# EAGLE library part MAX4376F (library lpatiny)
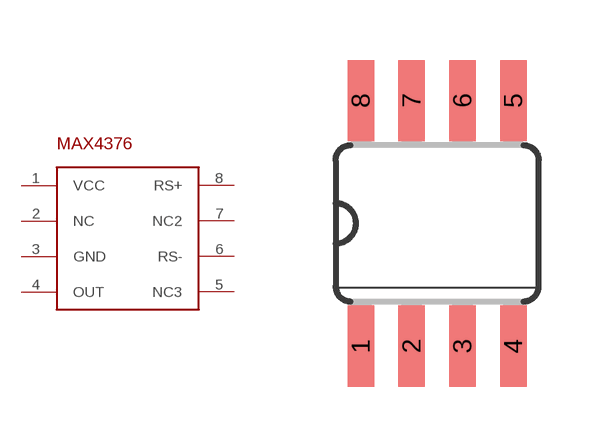
[diagram p24: symbol with the pads of SO8; footprint SO8]

Designator prefix -

## MAX4376F  [SO8]
1  VCC
2  NC
3  GND
4  OUT
5  NC3
6  RS-
7  NC2
8  RS+

## Footprint SO8 (pad centres in mm)
smd 0.66 x 2.032: 1 -3.81,-3.073; 2 -2.54,-3.073; 3 -1.27,-3.073; 4 0,-3.073; 5 0,3.073; 6 -1.27,3.073; 7 -2.54,3.073; 8 -3.81,3.073